# Altium schematic symbol library CONN-Barrier-Strip-2Circular-0.438in.SchLib: 2 symbols
Pins are listed as number, name and electrical type; pins without a type are passive.

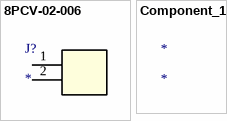
[diagram p0: symbols 8PCV-02-006 to Component_1]

## 8PCV-02-006
designator J?
Imported; Manufacturer_Part_Number: 8PCV-02-006; Vendor: TE Connectivity; Built_By: EMA_UL_Team; C: Copyright (C) 2015 Accelerated Designs. All rights reserved; Value: Value; Type: Type; RefDes: RefDes
footprint CON2_1X2_P438R_B
pins: 1, 2

## Component_1
designator *